# EAGLE library part FT37-43CENTERTAP (library Ham Radio)
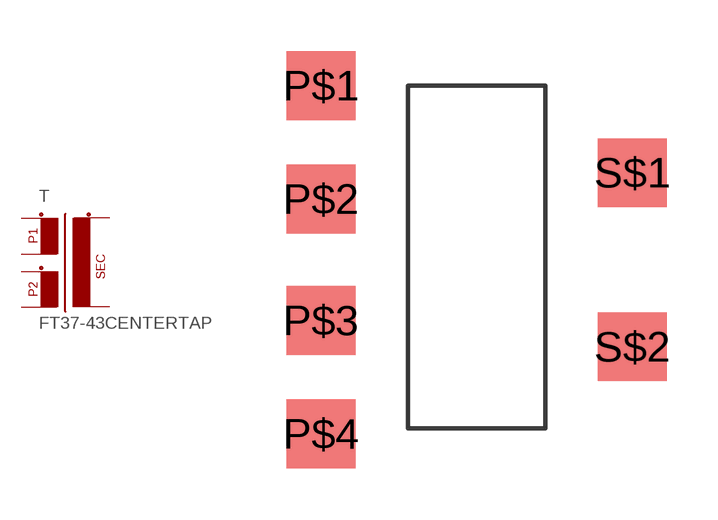
[diagram p0: symbol with the pads of FT37-43CENTERTAPSMD; footprint FT37-43CENTERTAPSMD]

Designator prefix T

## FT37-43CENTERTAP  [FT37-43CENTERTAPSMD]
P$1  P1_1  pas
P$2  P1_2  pas
P$3  P2_1  pas
P$4  P2_2  pas
S$1  S1  pas
S$2  S2  pas

## Footprint FT37-43CENTERTAPSMD (pad centres in mm)
smd 2 x 2: P$1 -7.62,3.81; P$2 -7.62,0.5; P$3 -7.62,-3.04; P$4 -7.62,-6.35; S$1 1.46,1.27; S$2 1.46,-3.81